# Altium footprint library wikiduino-atmega328p.PcbLib: 28 footprints (part 2 of 2)
Each footprint in its own frame and in the unit in brackets; x right, y up, seen from the top. Pads: shape width x height; smd on the part's side, far side on the other; paste and mask are expansions set on the pad; w line width, h text height; cw(c..) or ccw(c..) is an arc to the next point about the centre after c.
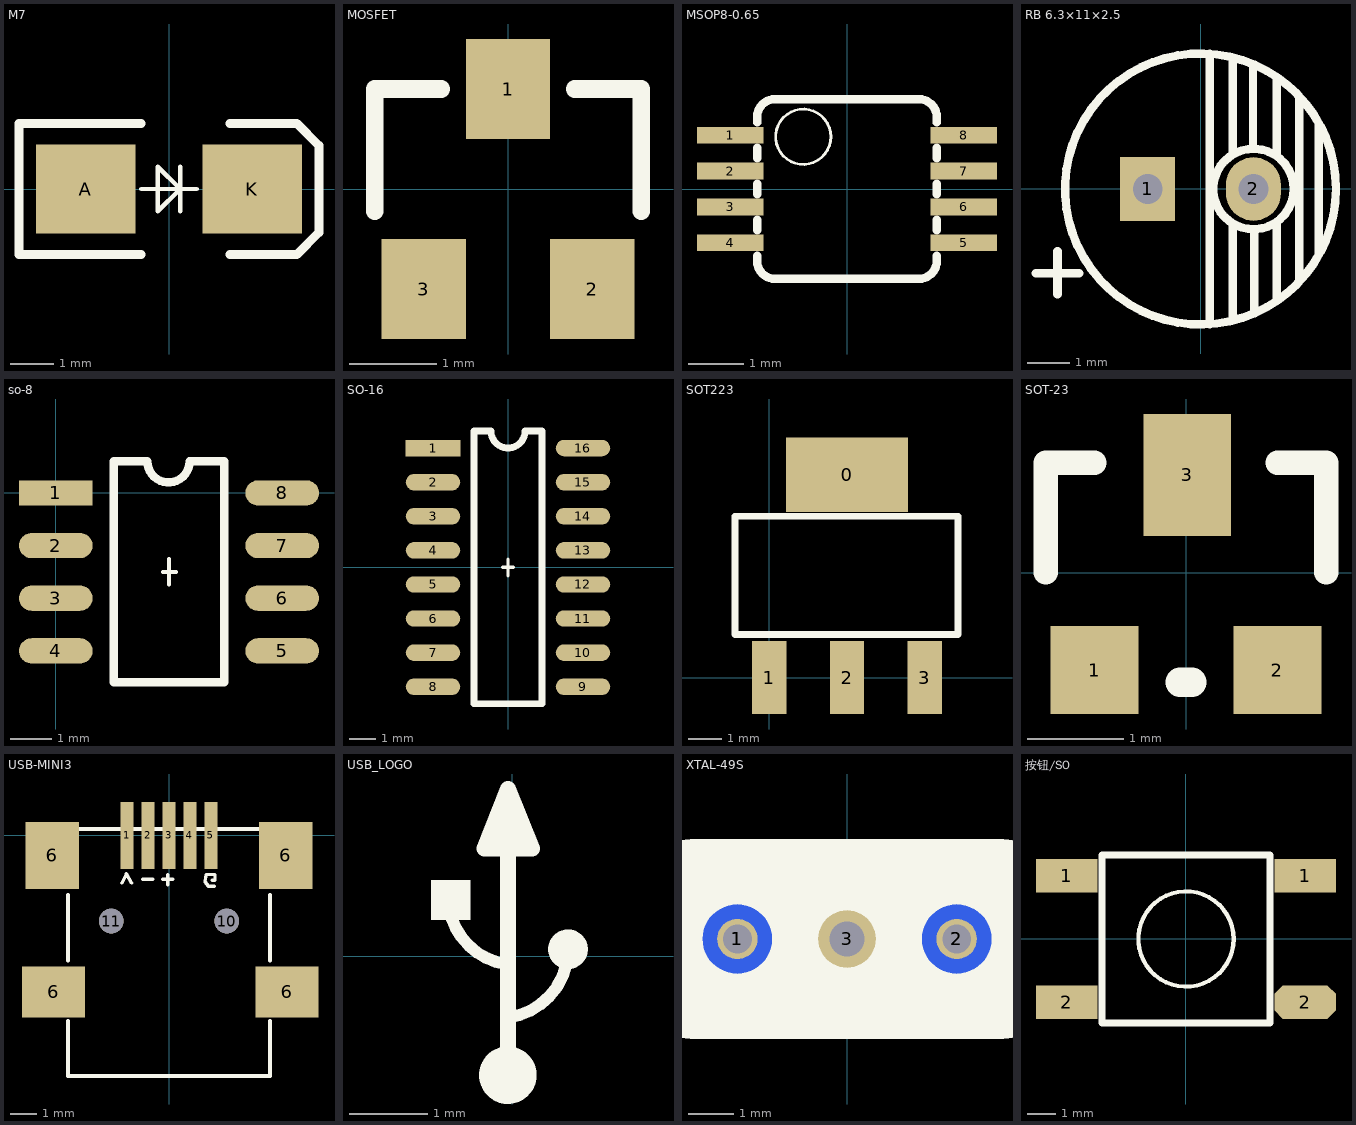
[diagram p1: the footprints below, top view; thin cyan lines are the x and y axes]

## M7 [mil]
pads (2):
  rect 89.37x80 smd: A(-75,0) K(75,0)
Top Overlay:
  lines w4: -25,0 25,0 ; 10,-20 10,20 ; -10,-20 10,0 -10,20 -10,-20
  lines w8: -25,-59 -135,-59 -135,59 -25,59 ; 55,-59 115,-59 135,-39 135,39 115,59 55,59
3D body: height 94.49, standoff 0, extent -87.54,-52.14 93.56,54.16

## MOSFET [mil]
pads (3):
  rect 38x45 smd: 1(0,45) 2(38,-45) 3(-38,-45)
Top Overlay:
  lines w8: -60,-10 -60,45 -30,45 ; 30,45 60,45 60,-10
3D body: height -15, standoff -62.24, extent -57.08,-53.11 57.09,57.12

## MSOP8-0.65 [mm]
pads (8):
  rect 1.2x0.3 smd: 1(-2.113,0.976) 2(-2.113,0.326) 3(-2.113,-0.324) 4(-2.113,-0.974) 5(2.112,-0.974) 6(2.112,-0.324) 7(2.112,0.326) 8(2.112,0.976)
Top Overlay:
  circle w0.051: c-0.791,0.946 r0.5
  lines w0.152: -1.626,-1.203 -1.626,-1.299 ccw(c-1.301,-1.299) -1.301,-1.624 1.299,-1.624 ccw(c1.299,-1.299) 1.624,-1.299 1.624,-1.203 ; -1.626,-0.746 -1.626,-0.553 ; -1.626,-0.096 -1.626,0.097 ; -1.626,0.554 -1.626,0.747 ; -1.626,1.204 -1.626,1.341 ; -1.626,1.301 cw(c-1.301,1.301) -1.301,1.626 1.299,1.626 cw(c1.299,1.301) 1.624,1.301 1.624,1.204 ; 1.624,-0.746 1.624,-0.553 ; 1.624,-0.096 1.624,0.097 ; 1.624,0.554 1.624,0.747
3D body: height 1.15, standoff 0, extent -2.45,-1.5 2.45,1.5

## RB 6.3×11×2.5 [mm]
pads (2):
  rect 1.3x1.5 hole 0.7: 1(-1.25,0)
  oval 1.3x1.5 hole 0.7: 2(1.25,0)
Top Overlay:
  circle w0.2: c1.25,0 r0.951
  circle w0.2: c0,0 r3.2
  lines w0.2: 0.223,-3.2 0.223,3.2 ; 0.757,-0.854 0.757,-3.039 0.807,-3.039 ; 0.757,0.822 0.757,3.083 ; 1.239,0.975 1.239,2.93 ; 1.265,-2.861 1.265,-0.981 ; 1.798,-2.607 1.798,-0.778 ; 1.798,0.848 1.798,2.6 ; 2.331,-2.15 2.331,2.168 ; 2.792,-1.492 2.792,1.556
  lines w0.203: -3.886,-1.989 -2.87,-1.989 ; -3.378,-2.489 -3.378,-1.473
3D body: height 11.53, standoff -3.01, extent -3.175,-3.175 3.175,3.175

## so-8 [mil]
pads (8):
  rect 70x24 smd: 1(0,0)
  oval 70x24 smd: 2(0,-50) 3(0,-100) 4(0,-150) 5(215,-150) 6(215,-100) 7(215,-50) 8(215,0)
Top Overlay:
  lines w3.94: 101.94,-75 114.06,-75 ; 107.61,-87.13 107.61,-62.87
  lines w8: 55,-180 55,30 87,30 ccw(c107,30) 127,30 160,30 160,-180 55,-180
3D body: height 66.93, standoff 0, extent -7.83,-171.45 228.39,21.46

## SO-16 [mil]
pads (16):
  rect 80x24 smd: 1(-110,175)
  oval 80x24 smd: 2(-110,125) 3(-110,75) 4(-110,25) 5(-110,-25) 6(-110,-75) 7(-110,-125) 8(-110,-175) 9(110,-175) 10(110,-125) 11(110,-75) 12(110,-25) 13(110,25) 14(110,75) 15(110,125) 16(110,175)
Top Overlay:
  lines w5: -8,0 8,0 ; 0,-12 0,12
  lines w10: -50,-200 -50,200 -25,200 ccw(c0,200) 25,200 50,200 50,-200 -50,-200
3D body: height 66.14, standoff 0, extent -148.83,-196.7 150.83,197

## SOT223 [mil]
pads (4):
  rect 141.73x86.61 smd: 0(90.55,236.22)
  rect 40x85 smd: 1(0,0) 2(90.55,0) 3(181.1,0)
Top Overlay:
  lines w8: -40,50 220,50 220,187.87 -40,187.87 -40,50
3D body: height -15, standoff -81.93, extent -37.95,-17 217.95,257.01

## SOT-23 [mil]
pads (3):
  rect 36x36 smd: 1(-37.5,-40) 2(37.5,-40)
  rect 36x50 smd: 3(0.5,40)
Top Overlay:
  lines w10: -57.5,0 -57.5,45 -37.5,45 ; 37.5,45 57.5,45 57.5,0
  lines w12: -2.5,-45 2.5,-45
3D body: height -15, standoff -62.24, extent -57.02,-52.11 57.15,58.12

## USB-MINI3 [mil]
pads (11):
  rect 20x100 smd: 1(-62.99,0) 2(-31.5,0) 3(0,0) 4(31.5,0) 5(62.99,0)
  rect 80x100 smd: 6(-175,-30) 6(175,-30)
  rect 94.49x76.77 smd: 6(-173.23,-234.72) 6(177.17,-234.72)
  round 37 hole 37 unplated: 10(86.61,-128.43) 11(-86.61,-128.43)
Top Overlay:
  lines w5: -70.85,-71.41 -63.96,-57.64 -56.09,-71.41 ; -39.36,-65.51 -24.6,-65.51 ; -9.84,-65.51 5.9,-65.51 ; -1.97,-74.36 -1.97,-58.62 ; 65,-67.48 69.02,-67.48 ; 67.9,-76.33 59.04,-76.33 54.12,-69.44 56.09,-58.62 68.88,-58.62 68.88,-67.48
  lines w6: -151.57,-278.03 -151.57,-360.71 151.57,-360.71 151.57,-278.03 ; -151.57,-187.48 -151.57,-89.06 ; -149.61,9.37 149.61,9.37 ; 151.57,-187.48 151.57,-89.06
3D body: height 153.58, standoff -43.31, extent -194.88,-358.23 194.88,11.68

## USB_LOGO [mil]
Top Overlay:
  circle w10: c28.18,3.56 r5
  circle w15: c-2.1,-59.78 r7
  rectangle: -40.9,18.22 -20.82,38.3
  lines w6: -30.67,19.85 ccw(c2.67,30.48) -2.02,-4.19 ; -2.02,-30.85 ccw(c-6.72,3.82) 28.21,1.79
  lines w8: -2.02,-54.47 -2.02,84.22 ; -2.02,54.14 -2.02,84.22 ; -2.02,84.22 10.18,54.22 -13.82,54.22 -2.02,84.22
  lines w15: -2.02,58.22 -2.02,62.22

## XTAL-49S [mil]
pads (5):
  round 35 hole 25: 1(-95,0) 2(95,0)
  round 60 on Bottom hole 25: 1(-95,0) 2(95,0)
  round 50 hole 30: 3(0,0)
Top Overlay:
  rectangle: -129.97,-86.61 129.88,86.61
  lines w173.23: -129.92,0 129.92,0
3D body: height 157.8, standoff -98.11, extent -211.14,-88.78 214.06,88.39

## 按钮/SO [mm]
pads (4):
  rect 2.2x1.2 smd: 1(-4.25,2.25) 1(4.25,2.25) 2(-4.25,-2.25)
  oct 2.2x1.2 smd: 2(4.25,-2.25)
Top Overlay:
  circle w0.15: c0,0 r1.7
  lines w0.254: -3,-3 3,-3 3,3 -3,3 -3,-3
3D body: height 4.44, standoff -0.1, extent -4.975,-3.025 5.025,2.975